# EAGLE library part 750370024 (library WE-OLSTM)
WE-OLSTM Offline Flyback Transformers Characteristics Nominal input voltage: 85–265 VAC (120–375 VDC) Operating temperature: –40 °C to +125 °C Isolation voltage: 2 kVAC up to 5 kVAC Multiple output options Options for fixed frequency or quasi-resonant mode operation Most products meet reinforced insulation Applications Offline-switch mode power supplies Especially designed for several ICs from STMicroelectronics Auxiliary power supply Home appliances Consumer electronics <https://www.we-online.com/components/media/o781306v209%20FAMILY-MID-OLSTM.jpg> Details see: www.we-online.com/en/components/products/WE-OLSTM <www.we-online.com/en/components/products/WE-OLSTM/?utm_source=eagle_model&utm_medium=description_link&utm_campaign=eisos_eagle> Created by Leviosa 2024-04-15 2024(C) Wurth Elektronik
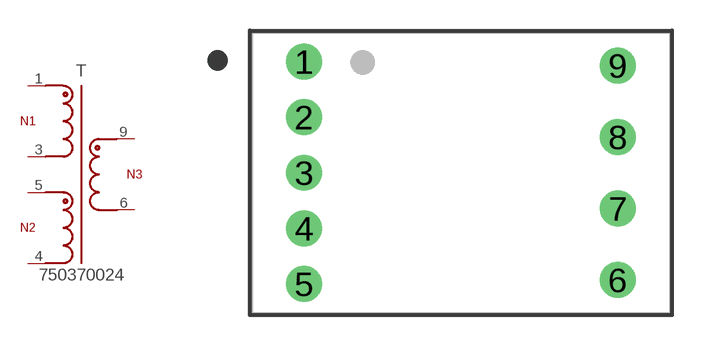
[diagram p25: symbol with the pads of WE-OLSTM_EE13_L13.72W20.45H10.8; footprint WE-OLSTM_EE13_L13.72W20.45H10.8]

Designator prefix T

## 750370024 (DATASHEET-URL: https://www.we-online.com/redexpert/spec/750370024?ae; FSWITCH: 115kHz; HEIGHT: 10.8mm; IOUT1: 0.5A; ISAT: 0.34A; L: 1.6mH; LENGTH: 13.72mm; MOUNT: THT; N: 8:1:1.33; PART-NUMBER: 750370024; SIZE: EE13/7/4; VALUE: 750370024; VAUX: 16V; VIN: 85 - 424 V (AC); VOUT1: 12V; VT: 4000VAC; WIDTH: 20.45mm)  [WE-OLSTM_EE13_L13.72W20.45H10.8]
1  1  pas
3  3  pas
4  4  pas
5  5  pas
6  6  pas
9  9  pas

## Footprint WE-OLSTM_EE13_L13.72W20.45H10.8 (pad centres in mm)
WE-OLSTM Offline Flyback Transformers for STMicroelectronics Size: EE13, THT, 9Pins LXWXH=13.72X20.45X10.8mm
drill 1.17: 1 -7.675,5.44; 2 -7.675,2.72; 3 -7.675,0; 4 -7.675,-2.72; 5 -7.675,-5.44; 6 7.675,-5.25; 7 7.675,-1.75; 8 7.675,1.75; 9 7.675,5.25